# EAGLE library part SGP30 (library SparkFun-Sensors)
The SGP30 is a digital multi-pixel gas sensor designed for easy integration into air purifier, demand-controlled ventilation, and IoT applications.
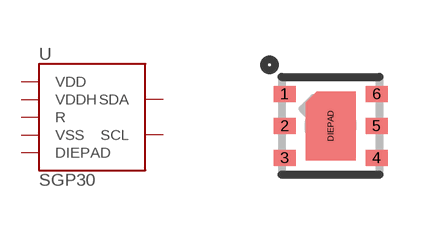
[diagram p74: symbol with the pads of SGP30; footprint SGP30]

Designator prefix U

## SGP30 (PROD_ID: IC-14776; VALUE: SGP30)  [SGP30]
1  VDD
2  VSS
3  SDA
4  R
5  VDDH
6  SCL
DIEPAD  DIEPAD

## Footprint SGP30 (pad centres in mm)
smd 0.55 x 0.4: 1 -1.15,0.8; 2 -1.15,0; 3 -1.15,-0.8; 4 1.15,-0.8; 5 1.15,0; 6 1.15,0.8
smd 0.305 x 0.61: DIEPAD 0,0